# Altium footprint library MC06XS4200.PcbLib: 1 footprints
Each footprint in its own frame and in the unit in brackets; x right, y up, seen from the top. Pads: shape width x height; smd on the part's side, far side on the other; paste and mask are expansions set on the pad; w line width, h text height; cw(c..) or ccw(c..) is an arc to the next point about the centre after c.
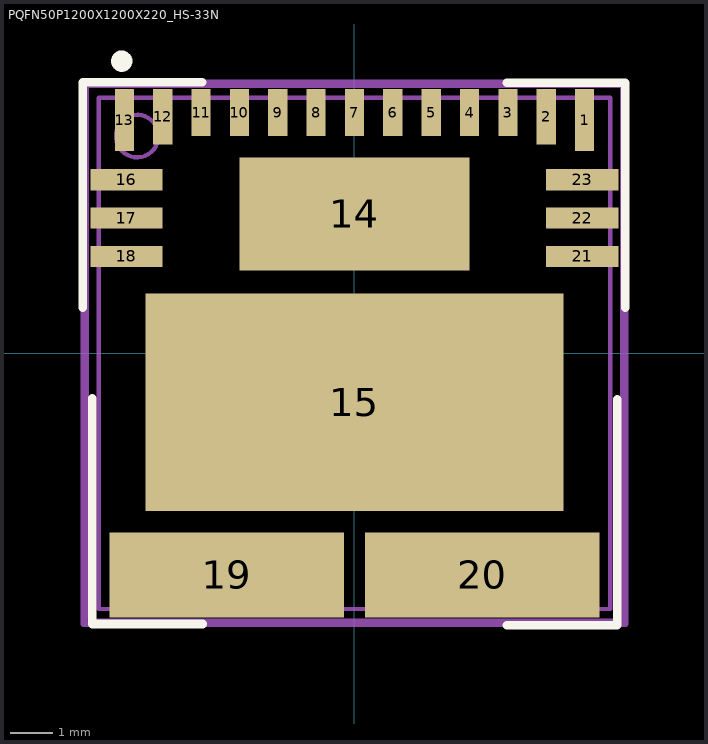
[diagram p0: the footprint, top view; thin cyan lines are the x and y axes]

## PQFN50P1200X1200X220_HS-33N [mm] "PQFN, 32-Leads, Body 12.00x12.00mm, Pitch 0.50mm, Thermal Pad 4.00x2.20mm, IPC Medium Density"
height 2.2
pads (23):
  rect 0.45x1.45 smd: 1(5.4,5.475) 13(-5.4,5.475)
  rect 0.45x1.3 smd: 2(4.5,5.55) 12(-4.5,5.55)
  rect 0.45x1.1 smd: 3(3.6,5.65) 4(2.7,5.65) 5(1.8,5.65) 6(0.9,5.65) 7(0,5.65) 8(-0.9,5.65) 9(-1.8,5.65) 10(-2.7,5.65) 11(-3.6,5.65)
  rect 5.4x2.65 smd: 14(0,3.275)
  rect 9.8x5.1 smd: 15(0,-1.15)
  rect 1.7x0.5 smd: 16(-5.35,4.075) 17(-5.35,3.175) 18(-5.35,2.275) 21(5.35,2.275) 22(5.35,3.175) 23(5.35,4.075)
  rect 5.5x2 smd: 19(-3,-5.2) 20(3,-5.2)
Top Overlay:
  circle w0.25: c-5.461,6.858 r0.125
  lines w0.2: -6.373,1.075 -6.373,6.367 -3.575,6.367 ; -6.153,-1.049 -6.153,-6.35 -3.56,-6.35 ; 3.575,-6.376 6.168,-6.376 6.168,-1.075 ; 3.575,6.355 6.348,6.355 6.348,1.075
Top Courtyard:
  lines w0.15: -6.35,-6.35 6.35,-6.35 6.35,6.35 -6.35,6.35 -6.35,-6.35
Mechanical 13:
  circle w0.1: c-5.1,5.1 r0.5
  lines w0.1: -6,-6 6,-6 6,6 -6,6 -6,-6
Mechanical 15:
  lines w0.05: -6.25,-6.25 6.25,-6.25 6.25,6.25 -6.25,6.25 -6.25,-6.25
  lines w0.1: -0.5,0 0.5,0 ; 0,-0.5 0,0.5
3D body: height 2.2, standoff 0, extent -6,-6 6,6